# EAGLE library part ATTINY45 (library vusbtiny)
ATTINY45
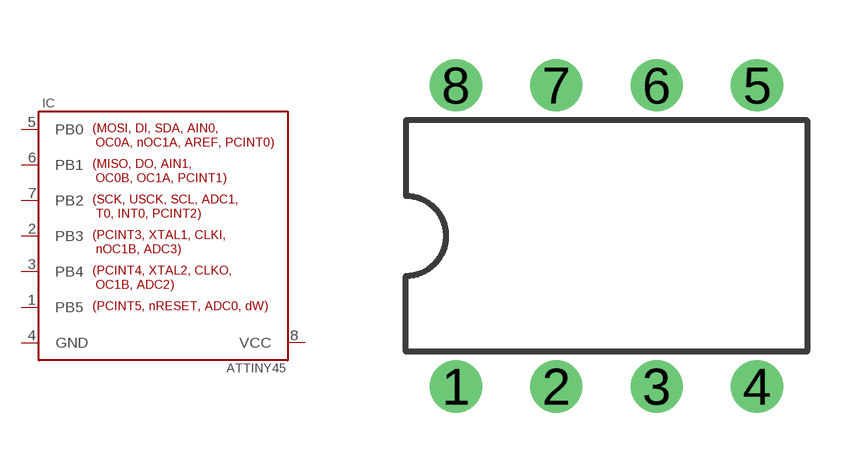
[diagram p0: symbol with the pads of DIL08; footprint DIL08]

Designator prefix IC

## ATTINY45  [DIL08]
1  PB5
2  PB3
3  PB4
4  GND  pwr
5  PB0
6  PB1
7  PB2
8  VCC  pwr

## Footprint DIL08 (pad centres in mm)
Dual In Line Package
drill 0.813 round: 1 -3.81,-3.81; 2 -1.27,-3.81; 3 1.27,-3.81; 4 3.81,-3.81; 5 3.81,3.81; 6 1.27,3.81; 7 -1.27,3.81; 8 -3.81,3.81